# Altium integrated library RESISTOR_SMD_0603.IntLib: 1 symbol
Pins are listed as number, name and electrical type; pins without a type are passive.

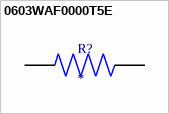
[diagram p0: symbol 0603WAF0000T5E]

## 0603WAF0000T5E
designator R?
0 Ohm 1/10W Thick Film Resistor 0603 Chip - Surface Mount; MF: Uni-Royal; MP: 0603WAF0000T5E; SnapEDA_Link: https://www.snapeda.com/parts/0603WAF0000T5E/Uni-Royal/view-part/?ref=snap; Package: None; Value: *; Check_prices: https://www.snapeda.com/parts/0603WAF0000T5E/Uni-Royal/view-part/?ref=eda
footprint RESC1608X55N
pins: 1, 2